# Altium footprint library Inductors.PcbLib: 2 footprints
Each footprint in its own frame and in the unit in brackets; x right, y up, seen from the top. Pads: shape width x height; smd on the part's side, far side on the other; paste and mask are expansions set on the pad; w line width, h text height; cw(c..) or ccw(c..) is an arc to the next point about the centre after c.
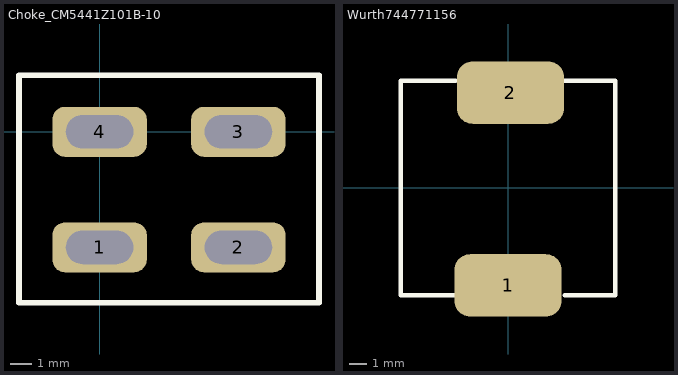
[diagram p0: the footprints below, top view; thin cyan lines are the x and y axes]

## Choke_CM5441Z101B-10 [mil]
pads (4):
  rrect50% 170x90 hole 60 slot 121 at 0 deg: 1(0,-208) 2(250,-208) 3(250,0) 4(0,0)
Top Overlay:
  lines w10: -145,-308 395,-308 395,102 -145,102 -145,-308

## Wurth744771156 [mm]
pads (2):
  rrect50% 6x3.5 smd: 1(0,-5.461) 2(0.127,5.334)
Top Overlay:
  lines w0.254: -2.921,-6.007 -6.007,-6.007 -6.007,5.993 -2.921,5.993 ; 3.175,-6.007 5.993,-6.007 5.993,5.993 3.175,5.993